# EAGLE library part 93LC46B (library microbuilder)
1K 16-Bit EEPROM (Compatible with FT2232H) SOIC8 - Digikey: 93LC46BT-I/SNCT-ND
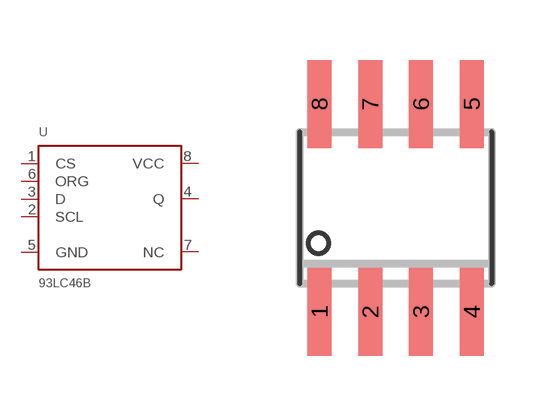
[diagram p80: symbol with the pads of SOIC8; footprint SOIC8]

Designator prefix U

## 93LC46B  [SOIC8]
1  CS  in
2  SCL  in
3  D  in
4  Q  out
5  GND  pwr
6  ORG
7  NC  nc
8  VCC  pwr

## Footprint SOIC8 (pad centres in mm)
Small Outline IC
smd 0.6 x 2.2: 1 -1.905,-2.6; 2 -0.635,-2.6; 3 0.635,-2.6; 4 1.905,-2.6; 5 1.905,2.6; 6 0.635,2.6; 7 -0.635,2.6; 8 -1.905,2.6